# EAGLE library part FAN8303 (library fairchild-semi)
Step-Down DC/DC Regulator 2A 23V Non-Synchronous
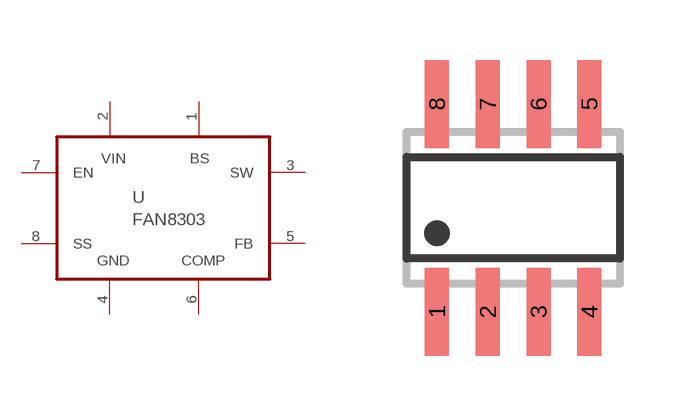
[diagram p10: symbol with the pads of SO08; footprint SO08]

Designator prefix U

## FAN8303  [SO08]
1  BS  in
2  VIN  in
3  SW  pas
4  GND  pwr
5  FB  in
6  COMP  in
7  EN  in
8  SS  in

## Footprint SO08 (pad centres in mm)
SMALL OUTLINE INTEGRATED CIRCUIT body 3.9 mm/JEDEC MS-012AA
smd 0.6 x 2.2: 1 -1.905,-2.6; 2 -0.635,-2.6; 3 0.635,-2.6; 4 1.905,-2.6; 5 1.905,2.6; 6 0.635,2.6; 7 -0.635,2.6; 8 -1.905,2.6